# Altium footprint library SPANSION SOIC-8 208MIL WIDE.PCBLIB: 1 footprints
Each footprint in its own frame and in the unit in brackets; x right, y up, seen from the top. Pads: shape width x height; smd on the part's side, far side on the other; paste and mask are expansions set on the pad; w line width, h text height; cw(c..) or ccw(c..) is an arc to the next point about the centre after c.
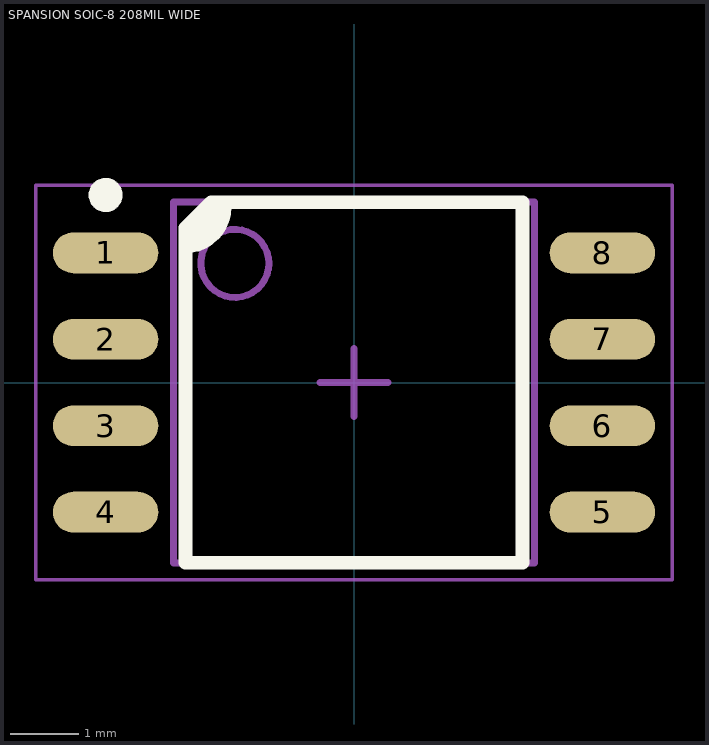
[diagram p0: the footprint, top view; thin cyan lines are the x and y axes]

## SPANSION SOIC-8 208MIL WIDE [mm] "SOIC, 8-Leads, Body 5.28x5.28mm, Pitch 1.27mm, IPC Medium Density"
height 2.16
pads (8):
  oval 1.55x0.6 smd: 1(-3.65,1.905) 2(-3.65,0.635) 3(-3.65,-0.635) 4(-3.65,-1.905) 5(3.65,-1.905) 6(3.65,-0.635) 7(3.65,0.635) 8(3.65,1.905)
Top Overlay:
  circle w0.25: c-3.65,2.755 r0.125
  region: -2.1,2.65 -1.9,2.65 -1.9,2.575 -1.9,2.461 -1.988,2.249 -2.149,2.088 -2.361,2 -2.475,2 -2.475,2.275
  lines w0.2: -2.475,2 ccw(c-2.475,2.575) -1.9,2.575 ; -2.475,-2.65 -2.475,2.275 -2.1,2.65 2.475,2.65 2.475,-2.65 -2.475,-2.65
Mechanical 13:
  circle w0.1: c-1.75,1.75 r0.5
  lines w0.1: -2.65,-2.65 -2.65,2.65 2.65,2.65 2.65,-2.65 -2.65,-2.65
Mechanical 15:
  lines w0.05: -4.675,-2.9 -4.675,2.9 4.675,2.9 4.675,-2.9 -4.675,-2.9
  lines w0.1: -0.5,0 0.5,0 ; 0,-0.5 0,0.5
3D body "SO-8 208mil.STEP": height 1.5, standoff 0, extent -4.014,-2.642 4.014,2.641